# EAGLE library part MICROXNJ (library MICROXNJ)
Check availability <https://pricing.snapeda.com/parts/MICROXNJ/Shouhan/view-part?ref=eda>
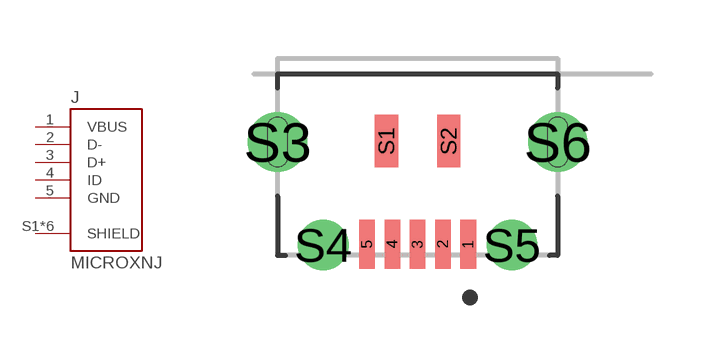
[diagram p0: symbol with the pads of SHOUHAN_MICROXNJ; footprint SHOUHAN_MICROXNJ]

Designator prefix J

## MICROXNJ (AVAILABILITY: Not in stock; CHECK_PRICES: https://www.snapeda.com/parts/MICROXNJ/Shouhan/view-part/?ref=eda; DESCRIPTION: Sensor Cables / Actuator Cables; MF: Shouhan; MP: MICROXNJ; PACKAGE: Package; PRICE: None; SNAPEDA_LINK: https://www.snapeda.com/parts/MICROXNJ/Shouhan/view-part/?ref=snap)  [SHOUHAN_MICROXNJ]
1  VBUS  pwr
2  D-
3  D+
4  ID
5  GND  pwr
S1  SHIELD  pas
S2  SHIELD  pas
S3  SHIELD  pas
S4  SHIELD  pas
S5  SHIELD  pas
S6  SHIELD  pas

## Footprint SHOUHAN_MICROXNJ (pad centres in mm)
MICROXNJ-1
smd 0.4 x 1.25: 1 1.3,-4.375; 2 0.65,-4.375; 3 0,-4.375; 4 -0.65,-4.375; 5 -1.3,-4.375
smd 0.6 x 1.35: S1 -0.8,-1.725; S2 0.8,-1.725
drill 1.016 pad 1.524: S3 -3.6,-1.75; S6 3.6,-1.75
drill 0.7 pad 1.3: S4 -2.425,-4.4; S5 2.425,-4.4